# EAGLE library part LPC2468FBD208 (library nxp-arm)
MICROCONTROLLER Single-chip 16-bit/32-bit micro; 512 kB flash, Ethernet, CAN, ISP/IAP, USB 2.0 device/host/OTG, external memory interface
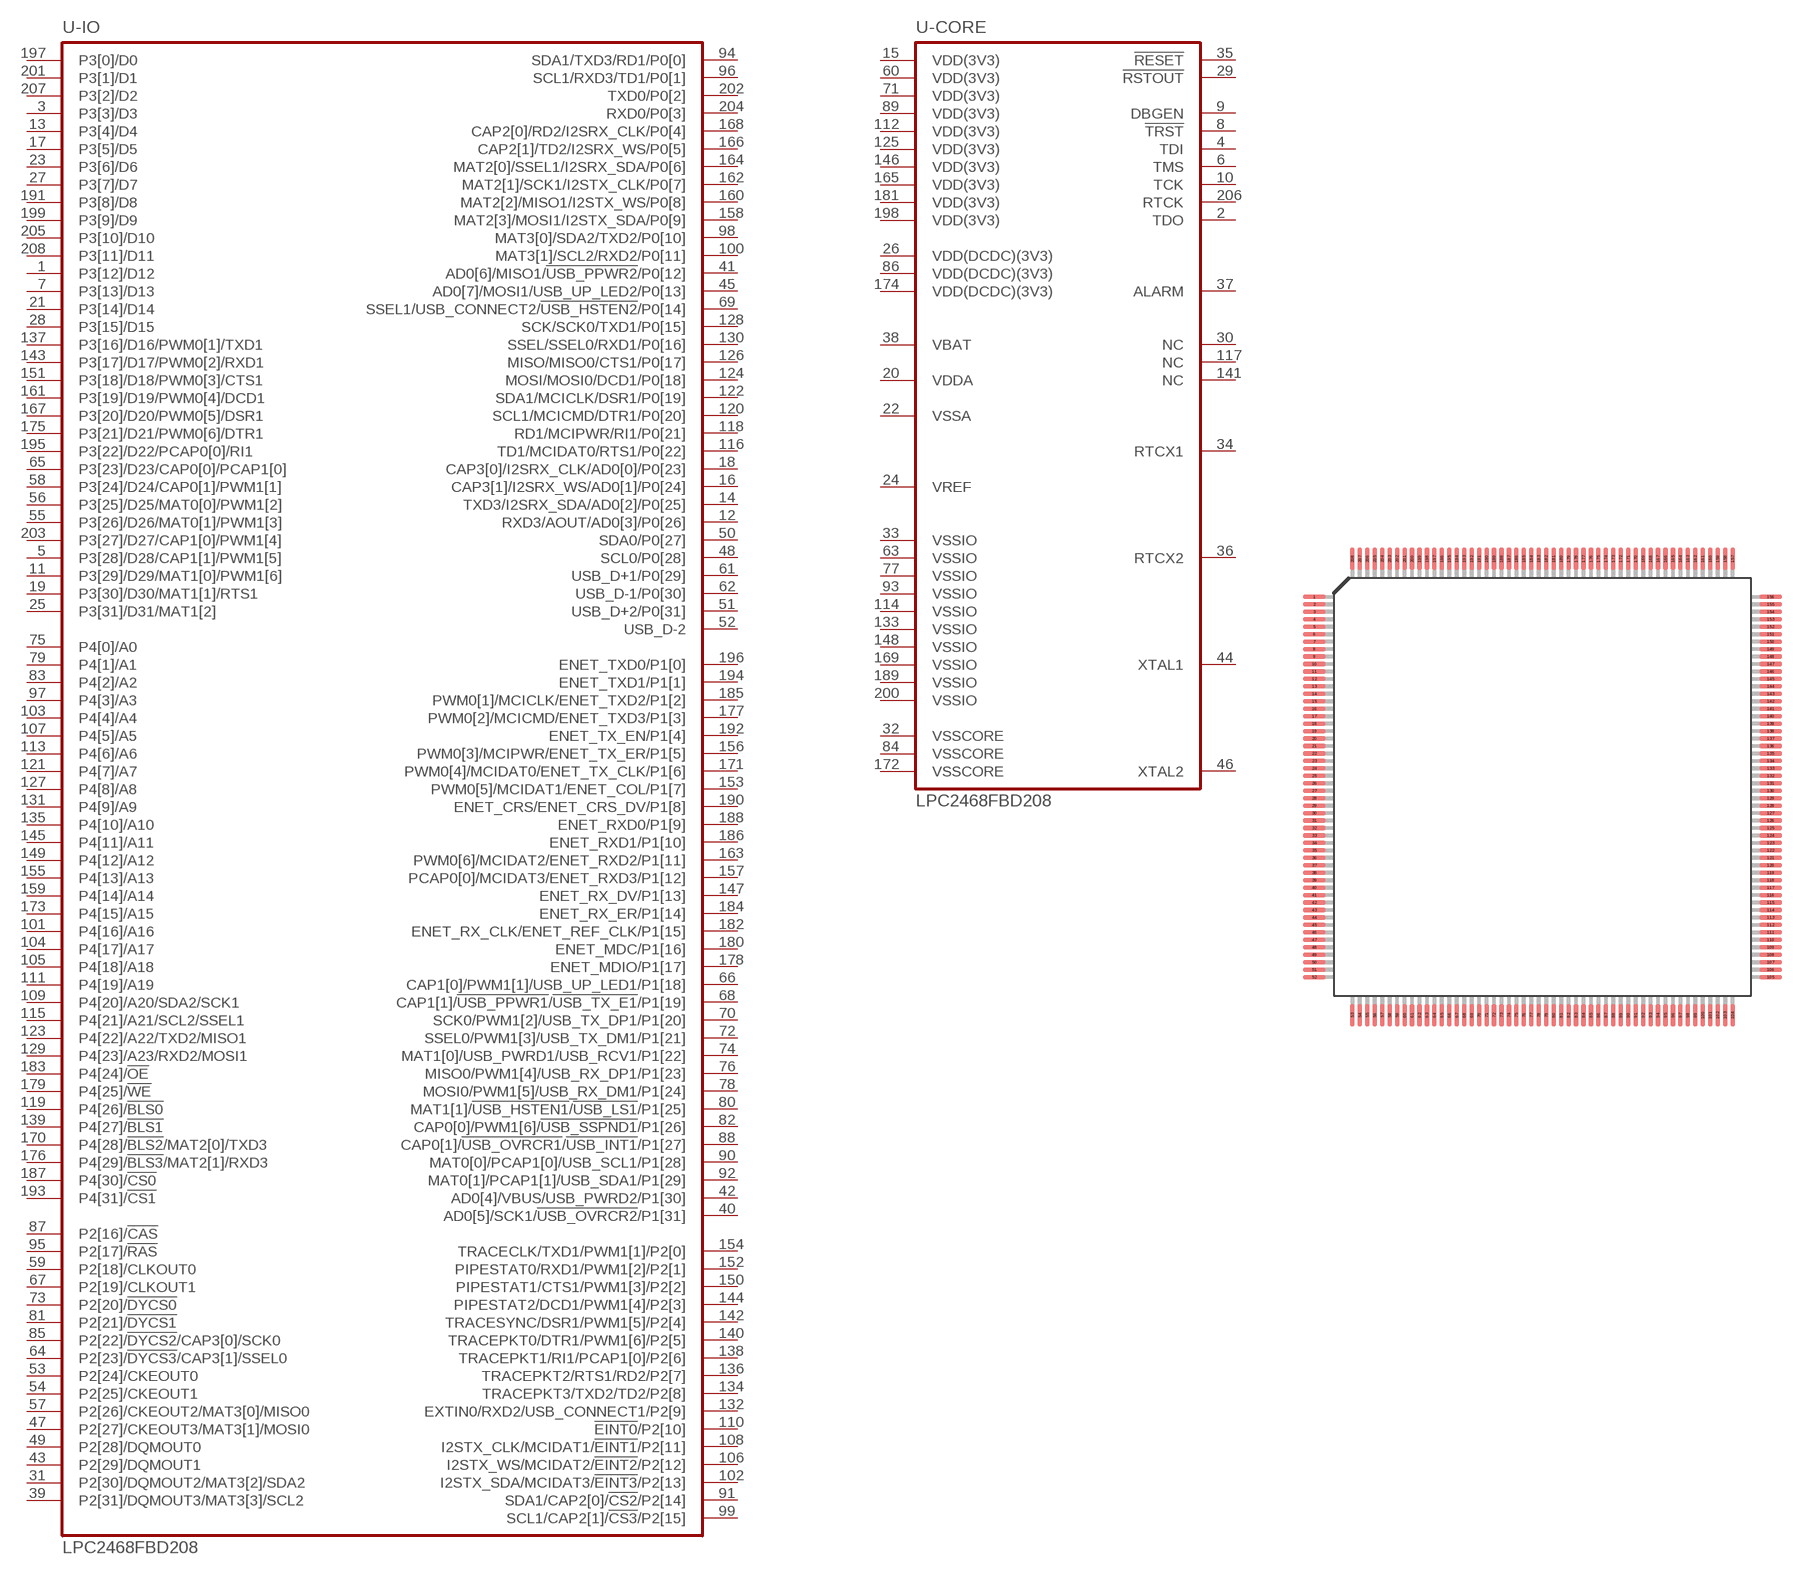
[diagram p2: symbol with the pads of LQFP208; footprint LQFP208]

Designator prefix U; gates -CORE=LPC2468-CORE -IO=LPC2468-IO

## LPC2468FBD208 (P1I: o)  [LQFP208]
1  -IO:P3[12]/D12
2  -CORE:TDO  out
3  -IO:P3[3]/D3
4  -CORE:TDI  in
5  -IO:P3[28]/D28/CAP1[1]/PWM1[5]
6  -CORE:TMS  in
7  -IO:P3[13]/D13
8  -CORE:!TRST!  in
9  -CORE:DBGEN  in
10  -CORE:TCK  in
11  -IO:P3[29]/D29/MAT1[0]/PWM1[6]
12  -IO:RXD3/AOUT/AD0[3]/P0[26]
13  -IO:P3[4]/D4
14  -IO:TXD3/I2SRX_SDA/AD0[2]/P0[25]
15  -CORE:VDD(3V3)  pwr
16  -IO:CAP3[1]/I2SRX_WS/AD0[1]/P0[24]
17  -IO:P3[5]/D5
18  -IO:CAP3[0]/I2SRX_CLK/AD0[0]/P0[23]
19  -IO:P3[30]/D30/MAT1[1]/RTS1
20  -CORE:VDDA  pwr
21  -IO:P3[14]/D14
22  -CORE:VSSA  pwr
23  -IO:P3[6]/D6
24  -CORE:VREF  pwr
25  -IO:P3[31]/D31/MAT1[2]
26  -CORE:VDD(DCDC)(3V3)  pwr
27  -IO:P3[7]/D7
28  -IO:P3[15]/D15
29  -CORE:!RSTOUT!  out
30  -CORE:NC  nc
31  -IO:P2[30]/DQMOUT2/MAT3[2]/SDA2
32  -CORE:VSSCORE  pwr
33  -CORE:VSSIO  pwr
34  -CORE:RTCX1  in
35  -CORE:!RESET!  in
36  -CORE:RTCX2  out
37  -CORE:ALARM  out
38  -CORE:VBAT  pwr
39  -IO:P2[31]/DQMOUT3/MAT3[3]/SCL2
40  -IO:AD0[5]/SCK1/!USB_OVRCR2!/P1[31]
41  -IO:AD0[6]/MISO1/!USB_PPWR2!/P0[12]
42  -IO:AD0[4]/VBUS/USB_PWRD2/P1[30]
43  -IO:P2[29]/DQMOUT1
44  -CORE:XTAL1  in
45  -IO:AD0[7]/MOSI1/USB_UP_LED2/P0[13]
46  -CORE:XTAL2  out
47  -IO:P2[27]/CKEOUT3/MAT3[1]/MOSI0
48  -IO:SCL0/P0[28]
49  -IO:P2[28]/DQMOUT0
50  -IO:SDA0/P0[27]
51  -IO:USB_D+2/P0[31]
52  -IO:USB_D-2
53  -IO:P2[24]/CKEOUT0
54  -IO:P2[25]/CKEOUT1
55  -IO:P3[26]/D26/MAT0[1]/PWM1[3]
56  -IO:P3[25]/D25/MAT0[0]/PWM1[2]
57  -IO:P2[26]/CKEOUT2/MAT3[0]/MISO0
58  -IO:P3[24]/D24/CAP0[1]/PWM1[1]
59  -IO:P2[18]/CLKOUT0
60  -CORE:VDD(3V3)  pwr
61  -IO:USB_D+1/P0[29]
62  -IO:USB_D-1/P0[30]
63  -CORE:VSSIO  pwr
64  -IO:P2[23]/!DYCS3!/CAP3[1]/SSEL0
65  -IO:P3[23]/D23/CAP0[0]/PCAP1[0]
66  -IO:CAP1[0]/PWM1[1]/USB_UP_LED1/P1[18]
67  -IO:P2[19]/CLKOUT1
68  -IO:CAP1[1]/!USB_PPWR1!/!USB_TX_E1!/P1[19]
69  -IO:SSEL1/USB_CONNECT2/!USB_HSTEN2!/P0[14]
70  -IO:SCK0/PWM1[2]/USB_TX_DP1/P1[20]
71  -CORE:VDD(3V3)  pwr
72  -IO:SSEL0/PWM1[3]/USB_TX_DM1/P1[21]
73  -IO:P2[20]/!DYCS0!
74  -IO:MAT1[0]/USB_PWRD1/USB_RCV1/P1[22]
75  -IO:P4[0]/A0
76  -IO:MISO0/PWM1[4]/USB_RX_DP1/P1[23]
77  -CORE:VSSIO  pwr
78  -IO:MOSI0/PWM1[5]/USB_RX_DM1/P1[24]
79  -IO:P4[1]/A1
80  -IO:MAT1[1]/!USB_HSTEN1!/!USB_LS1!/P1[25]
81  -IO:P2[21]/!DYCS1!
82  -IO:CAP0[0]/PWM1[6]/!USB_SSPND1!/P1[26]
83  -IO:P4[2]/A2
84  -CORE:VSSCORE  pwr
85  -IO:P2[22]/!DYCS2!/CAP3[0]/SCK0
86  -CORE:VDD(DCDC)(3V3)  pwr
87  -IO:P2[16]/!CAS!
88  -IO:CAP0[1]/!USB_OVRCR1!/!USB_INT1!/P1[27]
89  -CORE:VDD(3V3)  pwr
90  -IO:MAT0[0]/PCAP1[0]/USB_SCL1/P1[28]
91  -IO:SDA1/CAP2[0]/!CS2!/P2[14]
92  -IO:MAT0[1]/PCAP1[1]/USB_SDA1/P1[29]
93  -CORE:VSSIO  pwr
94  -IO:SDA1/TXD3/RD1/P0[0]
95  -IO:P2[17]/!RAS!
96  -IO:SCL1/RXD3/TD1/P0[1]
97  -IO:P4[3]/A3
98  -IO:MAT3[0]/SDA2/TXD2/P0[10]
99  -IO:SCL1/CAP2[1]/!CS3!/P2[15]
100  -IO:MAT3[1]/SCL2/RXD2/P0[11]
101  -IO:P4[16]/A16
102  -IO:I2STX_SDA/MCIDAT3/!EINT3!/P2[13]
103  -IO:P4[4]/A4
104  -IO:P4[17]/A17
105  -IO:P4[18]/A18
106  -IO:I2STX_WS/MCIDAT2/!EINT2!/P2[12]
107  -IO:P4[5]/A5
108  -IO:I2STX_CLK/MCIDAT1/!EINT1!/P2[11]
109  -IO:P4[20]/A20/SDA2/SCK1
110  -IO:!EINT0!/P2[10]
111  -IO:P4[19]/A19
112  -CORE:VDD(3V3)  pwr
113  -IO:P4[6]/A6
114  -CORE:VSSIO  pwr
115  -IO:P4[21]/A21/SCL2/SSEL1
116  -IO:TD1/MCIDAT0/RTS1/P0[22]
117  -CORE:NC  nc
118  -IO:RD1/MCIPWR/RI1/P0[21]
119  -IO:P4[26]/!BLS0!
120  -IO:SCL1/MCICMD/DTR1/P0[20]
121  -IO:P4[7]/A7
122  -IO:SDA1/MCICLK/DSR1/P0[19]
123  -IO:P4[22]/A22/TXD2/MISO1
124  -IO:MOSI/MOSI0/DCD1/P0[18]
125  -CORE:VDD(3V3)  pwr
126  -IO:MISO/MISO0/CTS1/P0[17]
127  -IO:P4[8]/A8
128  -IO:SCK/SCK0/TXD1/P0[15]
129  -IO:P4[23]/A23/RXD2/MOSI1
130  -IO:SSEL/SSEL0/RXD1/P0[16]
131  -IO:P4[9]/A9
132  -IO:EXTIN0/RXD2/USB_CONNECT1/P2[9]
133  -CORE:VSSIO  pwr
134  -IO:TRACEPKT3/TXD2/TD2/P2[8]
135  -IO:P4[10]/A10
136  -IO:TRACEPKT2/RTS1/RD2/P2[7]
137  -IO:P3[16]/D16/PWM0[1]/TXD1
138  -IO:TRACEPKT1/RI1/PCAP1[0]/P2[6]
139  -IO:P4[27]/!BLS1!
140  -IO:TRACEPKT0/DTR1/PWM1[6]/P2[5]
141  -CORE:NC  nc
142  -IO:TRACESYNC/DSR1/PWM1[5]/P2[4]
143  -IO:P3[17]/D17/PWM0[2]/RXD1
144  -IO:PIPESTAT2/DCD1/PWM1[4]/P2[3]
145  -IO:P4[11]/A11
146  -CORE:VDD(3V3)  pwr
147  -IO:ENET_RX_DV/P1[13]
148  -CORE:VSSIO  pwr
149  -IO:P4[12]/A12
150  -IO:PIPESTAT1/CTS1/PWM1[3]/P2[2]
151  -IO:P3[18]/D18/PWM0[3]/CTS1
152  -IO:PIPESTAT0/RXD1/PWM1[2]/P2[1]
153  -IO:PWM0[5]/MCIDAT1/ENET_COL/P1[7]
154  -IO:TRACECLK/TXD1/PWM1[1]/P2[0]
155  -IO:P4[13]/A13
156  -IO:PWM0[3]/MCIPWR/ENET_TX_ER/P1[5]
157  -IO:PCAP0[0]/MCIDAT3/ENET_RXD3/P1[12]
158  -IO:MAT2[3]/MOSI1/I2STX_SDA/P0[9]
159  -IO:P4[14]/A14
160  -IO:MAT2[2]/MISO1/I2STX_WS/P0[8]
161  -IO:P3[19]/D19/PWM0[4]/DCD1
162  -IO:MAT2[1]/SCK1/I2STX_CLK/P0[7]
163  -IO:PWM0[6]/MCIDAT2/ENET_RXD2/P1[11]
164  -IO:MAT2[0]/SSEL1/I2SRX_SDA/P0[6]
165  -CORE:VDD(3V3)  pwr
166  -IO:CAP2[1]/TD2/I2SRX_WS/P0[5]
167  -IO:P3[20]/D20/PWM0[5]/DSR1
168  -IO:CAP2[0]/RD2/I2SRX_CLK/P0[4]
169  -CORE:VSSIO  pwr
170  -IO:P4[28]/!BLS2!/MAT2[0]/TXD3
171  -IO:PWM0[4]/MCIDAT0/ENET_TX_CLK/P1[6]
172  -CORE:VSSCORE  pwr
173  -IO:P4[15]/A15
174  -CORE:VDD(DCDC)(3V3)  pwr
175  -IO:P3[21]/D21/PWM0[6]/DTR1
176  -IO:P4[29]/!BLS3!/MAT2[1]/RXD3
177  -IO:PWM0[2]/MCICMD/ENET_TXD3/P1[3]
178  -IO:ENET_MDIO/P1[17]
179  -IO:P4[25]/!WE!
180  -IO:ENET_MDC/P1[16]
181  -CORE:VDD(3V3)  pwr
182  -IO:ENET_RX_CLK/ENET_REF_CLK/P1[15]
183  -IO:P4[24]/!OE!
184  -IO:ENET_RX_ER/P1[14]
185  -IO:PWM0[1]/MCICLK/ENET_TXD2/P1[2]
186  -IO:ENET_RXD1/P1[10]
187  -IO:P4[30]/!CS0!
188  -IO:ENET_RXD0/P1[9]
189  -CORE:VSSIO  pwr
190  -IO:ENET_CRS/ENET_CRS_DV/P1[8]
191  -IO:P3[8]/D8
192  -IO:ENET_TX_EN/P1[4]
193  -IO:P4[31]/!CS1!
194  -IO:ENET_TXD1/P1[1]
195  -IO:P3[22]/D22/PCAP0[0]/RI1
196  -IO:ENET_TXD0/P1[0]
197  -IO:P3[0]/D0
198  -CORE:VDD(3V3)  pwr
199  -IO:P3[9]/D9
200  -CORE:VSSIO  pwr
201  -IO:P3[1]/D1
202  -IO:TXD0/P0[2]
203  -IO:P3[27]/D27/CAP1[0]/PWM1[4]
204  -IO:RXD0/P0[3]
205  -IO:P3[10]/D10
206  -CORE:RTCK
207  -IO:P3[2]/D2
208  -IO:P3[11]/D11

## Footprint LQFP208 (pad centres in mm)
Plastic Quad Flat Pack 208-pin body 28 x 28 x 1.4 mm, JDEC MS-026, Outline SOT459-1
smd 1.5 x 0.3: 1 -15.3,12.75; 2 -15.3,12.25; 3 -15.3,11.75; 4 -15.3,11.25; 5 -15.3,10.75; 6 -15.3,10.25; 7 -15.3,9.75; 8 -15.3,9.25; 9 -15.3,8.75; 10 -15.3,8.25; 11 -15.3,7.75; 12 -15.3,7.25; 13 -15.3,6.75; 14 -15.3,6.25; 15 -15.3,5.75; 16 -15.3,5.25; 17 -15.3,4.75; 18 -15.3,4.25; 19 -15.3,3.75; 20 -15.3,3.25; 21 -15.3,2.75; 22 -15.3,2.25; 23 -15.3,1.75; 24 -15.3,1.25; 25 -15.3,0.75; 26 -15.3,0.25; 27 -15.3,-0.25; 28 -15.3,-0.75; 29 -15.3,-1.25; 30 -15.3,-1.75; 31 -15.3,-2.25; 32 -15.3,-2.75; 33 -15.3,-3.25; 34 -15.3,-3.75; 35 -15.3,-4.25; 36 -15.3,-4.75; 37 -15.3,-5.25; 38 -15.3,-5.75; 39 -15.3,-6.25; 40 -15.3,-6.75; 41 -15.3,-7.25; 42 -15.3,-7.75; 43 -15.3,-8.25; 44 -15.3,-8.75; 45 -15.3,-9.25; 46 -15.3,-9.75; 47 -15.3,-10.25; 48 -15.3,-10.75; 49 -15.3,-11.25; 50 -15.3,-11.75; 51 -15.3,-12.25; 52 -15.3,-12.75; 105 15.3,-12.75; 106 15.3,-12.25; 107 15.3,-11.75; 108 15.3,-11.25; 109 15.3,-10.75; 110 15.3,-10.25; 111 15.3,-9.75; 112 15.3,-9.25; 113 15.3,-8.75; 114 15.3,-8.25; 115 15.3,-7.75; 116 15.3,-7.25; 117 15.3,-6.75; 118 15.3,-6.25; 119 15.3,-5.75; 120 15.3,-5.25; 121 15.3,-4.75; 122 15.3,-4.25; 123 15.3,-3.75; 124 15.3,-3.25; 125 15.3,-2.75; 126 15.3,-2.25; 127 15.3,-1.75; 128 15.3,-1.25; 129 15.3,-0.75; 130 15.3,-0.25; 131 15.3,0.25; 132 15.3,0.75; 133 15.3,1.25; 134 15.3,1.75; 135 15.3,2.25; 136 15.3,2.75; 137 15.3,3.25; 138 15.3,3.75; 139 15.3,4.25; 140 15.3,4.75; 141 15.3,5.25; 142 15.3,5.75; 143 15.3,6.25; 144 15.3,6.75; 145 15.3,7.25; 146 15.3,7.75; 147 15.3,8.25; 148 15.3,8.75; 149 15.3,9.25; 150 15.3,9.75; 151 15.3,10.25; 152 15.3,10.75; 153 15.3,11.25; 154 15.3,11.75; 155 15.3,12.25; 156 15.3,12.75
smd 0.3 x 1.5: 53 -12.75,-15.3; 54 -12.25,-15.3; 55 -11.75,-15.3; 56 -11.25,-15.3; 57 -10.75,-15.3; 58 -10.25,-15.3; 59 -9.75,-15.3; 60 -9.25,-15.3; 61 -8.75,-15.3; 62 -8.25,-15.3; 63 -7.75,-15.3; 64 -7.25,-15.3; 65 -6.75,-15.3; 66 -6.25,-15.3; 67 -5.75,-15.3; 68 -5.25,-15.3; 69 -4.75,-15.3; 70 -4.25,-15.3; 71 -3.75,-15.3; 72 -3.25,-15.3; 73 -2.75,-15.3; 74 -2.25,-15.3; 75 -1.75,-15.3; 76 -1.25,-15.3; 77 -0.75,-15.3; 78 -0.25,-15.3; 79 0.25,-15.3; 80 0.75,-15.3; 81 1.25,-15.3; 82 1.75,-15.3; 83 2.25,-15.3; 84 2.75,-15.3; 85 3.25,-15.3; 86 3.75,-15.3; 87 4.25,-15.3; 88 4.75,-15.3; 89 5.25,-15.3; 90 5.75,-15.3; 91 6.25,-15.3; 92 6.75,-15.3; 93 7.25,-15.3; 94 7.75,-15.3; 95 8.25,-15.3; 96 8.75,-15.3; 97 9.25,-15.3; 98 9.75,-15.3; 99 10.25,-15.3; 100 10.75,-15.3; 101 11.25,-15.3; 102 11.75,-15.3; 103 12.25,-15.3; 104 12.75,-15.3; 157 12.75,15.3; 158 12.25,15.3; 159 11.75,15.3; 160 11.25,15.3; 161 10.75,15.3; 162 10.25,15.3; 163 9.75,15.3; 164 9.25,15.3; 165 8.75,15.3; 166 8.25,15.3; 167 7.75,15.3; 168 7.25,15.3; 169 6.75,15.3; 170 6.25,15.3; 171 5.75,15.3; 172 5.25,15.3; 173 4.75,15.3; 174 4.25,15.3; 175 3.75,15.3; 176 3.25,15.3; 177 2.75,15.3; 178 2.25,15.3; 179 1.75,15.3; 180 1.25,15.3; 181 0.75,15.3; 182 0.25,15.3; 183 -0.25,15.3; 184 -0.75,15.3; 185 -1.25,15.3; 186 -1.75,15.3; 187 -2.25,15.3; 188 -2.75,15.3; 189 -3.25,15.3; 190 -3.75,15.3; 191 -4.25,15.3; 192 -4.75,15.3; 193 -5.25,15.3; 194 -5.75,15.3; 195 -6.25,15.3; 196 -6.75,15.3; 197 -7.25,15.3; 198 -7.75,15.3; 199 -8.25,15.3; 200 -8.75,15.3; 201 -9.25,15.3; 202 -9.75,15.3; 203 -10.25,15.3; 204 -10.75,15.3; 205 -11.25,15.3; 206 -11.75,15.3; 207 -12.25,15.3; 208 -12.75,15.3